# Altium footprint library others.PcbLib: 82 footprints (part 4 of 6)
Each footprint in its own frame and in the unit in brackets; x right, y up, seen from the top. Pads: shape width x height; smd on the part's side, far side on the other; paste and mask are expansions set on the pad; w line width, h text height; cw(c..) or ccw(c..) is an arc to the next point about the centre after c.
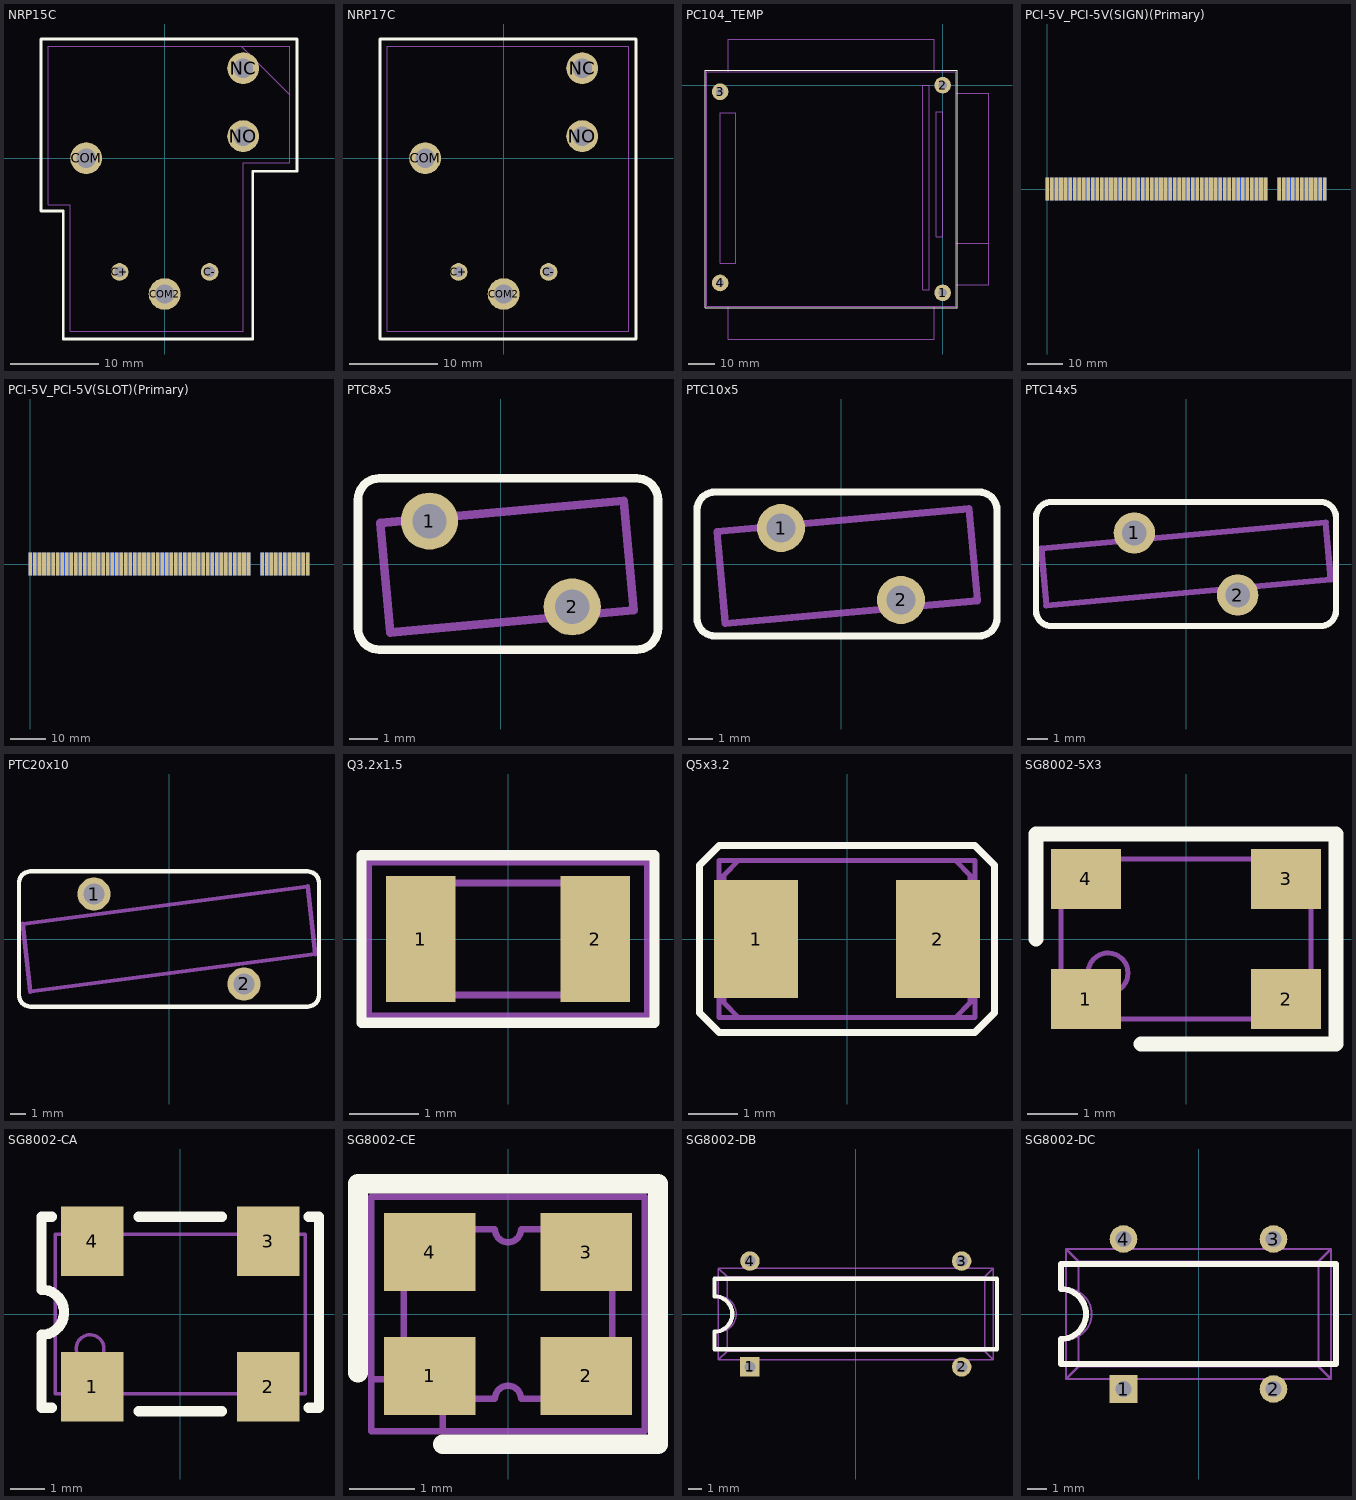
[diagram p3: the footprints below, top view; thin cyan lines are the x and y axes]

## NRP15C [mm]
height 20
pads (6):
  round 2 hole 1.2: C+(-5.1,-12.9) C-(5.1,-12.9)
  round 3.6 hole 2.2: COM(-8.9,0) COM2(0,-15.4) NC(8.9,10.2) NO(8.9,2.5)
Top Overlay:
  lines w0.3: -14,-6 -14,13.5 15,13.5 15,-1.5 10,-1.5 10,-20.5 -11.5,-20.5 -11.5,-6 -14,-6
Mechanical 1:
  lines w0.1: 8.7,12.7 14.2,7.2 ; -13.2,-5.3 -13.2,12.7 14.2,12.7 14.2,-0.5 8.9,-0.5 8.9,-19.6 -10.7,-19.6 -10.7,-5.3 -13.2,-5.3
3D body: height 20, standoff 0.2, extent -13.209,-19.609 14.208,12.708
3D body: height 1, standoff -3.6, extent -9.8,-0.3 -8,0.3
3D body: height 1, standoff -3.6, extent 8,2.2 9.8,2.8
3D body: height 1, standoff -3.6, extent 8,9.9 9.8,10.5
3D body: height 1, standoff -3.6, extent -0.9,-15.7 0.9,-15.1

## NRP17C [mm]
height 28
pads (6):
  round 2 hole 1.2: C+(-5.1,-12.9) C-(5.1,-12.9)
  round 3.6 hole 2.2: COM(-8.9,0) COM2(0,-15.4) NC(8.9,10.2) NO(8.9,2.5)
Top Overlay:
  lines w0.3: -14,-20.5 15,-20.5 15,13.5 -14,13.5 -14,-20.5
Mechanical 1:
  lines w0.1: -13.2,-19.6 -13.2,12.7 14.2,12.7 14.2,-19.6 -13.2,-19.6
3D body: height 28, standoff 19, extent -9.3,-3.2 -8.5,3.2
3D body: height 28, standoff 19, extent 5.7,2.1 12.1,2.9
3D body: height 28, standoff 19, extent 5.7,9.8 12.1,10.6
3D body: height 19.6, standoff 0.2, extent -13.208,-19.607 14.208,12.708
3D body: height 1, standoff -3.6, extent -0.9,-15.7 0.9,-15.1
3D body: height 1, standoff -3.6, extent 8,9.9 9.8,10.5
3D body: height 1, standoff -3.6, extent 8,2.2 9.8,2.8
3D body: height 1, standoff -3.6, extent -9.8,-0.3 -8,0.3

## PC104_TEMP [mm]
pads (4):
  round 6.4 hole 3.2: 1(0,-80.01) 2(0,0) 3(-85.725,-2.54) 4(-85.725,-76.2)
Top Overlay:
  lines w0.3: -91.44,-85.725 5.715,-85.725 5.715,5.715 -91.44,5.715 -91.44,-85.725
Mechanical 1:
  lines w0.3: -86.995,-77.47 -84.455,-74.93 ; -86.995,-74.93 -84.455,-77.47 ; -86.995,-3.81 -84.455,-1.27 ; -86.995,-1.27 -84.455,-3.81 ; -82.55,-85.09 -82.55,-97.79 -3.175,-97.79 -3.175,-85.09 ; -82.55,5.08 -82.55,17.78 -3.175,17.78 -3.175,5.08 ; -1.27,-81.28 1.27,-78.74 ; -1.27,-78.74 1.27,-81.28 ; -1.27,-1.27 1.27,1.27 ; -1.27,1.27 1.27,-1.27 ; 5.08,-76.835 17.78,-76.835 17.78,-60.96 ; 5.08,-60.96 17.78,-60.96 ; 5.08,-3.175 17.78,-3.175 17.78,-60.96 ; -90.805,-85.09 5.08,-85.09 5.08,5.08 -90.805,5.08 -90.805,-85.09 ; -85.725,-68.58 -79.725,-68.58 -79.725,-10.58 -85.725,-10.58 -85.725,-68.58 ; -7.62,-78.74 -5.08,-78.74 -5.08,0 -7.62,0 -7.62,-78.74 ; -2.54,-58.42 -2.54,-10.16 0,-10.16 0,-58.42 -2.54,-58.42
  text "A1" at -6.667,-82.091 h2.82
  text "D0" at 0,-61.771 h2.82
  text "B1" at -10.795,-82.091 h2.82
  text "A1" at -80.962,-72.566 h2.82
  text "D1" at -87.445,-72.566 h2.82
  text "C0" at -4.127,-61.771 h2.82

## PCI-5V_PCI-5V(SIGN)(Primary) [mil]
pads (120):
  rect 40x250 smd far side: A1(0,0) A2(50,0) A3(100,0) A4(150,0) A5(200,0) A6(250,0) A7(300,0) A8(350,0) A9(400,0) A10(450,0) A11(500,0) A12(550,0) A13(600,0) A14(650,0) A15(700,0) A16(750,0) A17(800,0) A18(850,0) A19(900,0) A20(950,0) A21(1000,0) A22(1050,0) A23(1100,0) A24(1150,0) A25(1200,0) A26(1250,0) A27(1300,0) A28(1350,0) A29(1400,0) A30(1450,0) A31(1500,0) A32(1550,0) A33(1600,0) A34(1650,0) A35(1700,0) A36(1750,0) A37(1800,0) A38(1850,0) A39(1900,0) A40(1950,0) A41(2000,0) A42(2050,0) A43(2100,0) A44(2150,0) A45(2200,0) A46(2250,0) A47(2300,0) A48(2350,0) A49(2400,0) A52(2550,0) A53(2600,0) A54(2650,0) A55(2700,0) A56(2750,0) A57(2800,0) A58(2850,0) A59(2900,0) A60(2950,0) A61(3000,0) A62(3050,0)
  rect 40x250 smd: B1(0,0) B2(50,0) B3(100,0) B4(150,0) B5(200,0) B6(250,0) B7(300,0) B8(350,0) B9(400,0) B10(450,0) B11(500,0) B12(550,0) B13(600,0) B14(650,0) B15(700,0) B16(750,0) B17(800,0) B18(850,0) B19(900,0) B20(950,0) B21(1000,0) B22(1050,0) B23(1100,0) B24(1150,0) B25(1200,0) B26(1250,0) B27(1300,0) B28(1350,0) B29(1400,0) B30(1450,0) B31(1500,0) B32(1550,0) B33(1600,0) B34(1650,0) B35(1700,0) B36(1750,0) B37(1800,0) B38(1850,0) B39(1900,0) B40(1950,0) B41(2000,0) B42(2050,0) B43(2100,0) B44(2150,0) B45(2200,0) B46(2250,0) B47(2300,0) B48(2350,0) B49(2400,0) B52(2550,0) B53(2600,0) B54(2650,0) B55(2700,0) B56(2750,0) B57(2800,0) B58(2850,0) B59(2900,0) B60(2950,0) B61(3000,0) B62(3050,0)

## PCI-5V_PCI-5V(SLOT)(Primary) [mil]
pads (120):
  rect 40x250 smd far side: A1(0,0) A2(50,0) A3(100,0) A4(150,0) A5(200,0) A6(250,0) A7(300,0) A8(350,0) A9(400,0) A10(450,0) A11(500,0) A12(550,0) A13(600,0) A14(650,0) A15(700,0) A16(750,0) A17(800,0) A18(850,0) A19(900,0) A20(950,0) A21(1000,0) A22(1050,0) A23(1100,0) A24(1150,0) A25(1200,0) A26(1250,0) A27(1300,0) A28(1350,0) A29(1400,0) A30(1450,0) A31(1500,0) A32(1550,0) A33(1600,0) A34(1650,0) A35(1700,0) A36(1750,0) A37(1800,0) A38(1850,0) A39(1900,0) A40(1950,0) A41(2000,0) A42(2050,0) A43(2100,0) A44(2150,0) A45(2200,0) A46(2250,0) A47(2300,0) A48(2350,0) A49(2400,0) A52(2550,0) A53(2600,0) A54(2650,0) A55(2700,0) A56(2750,0) A57(2800,0) A58(2850,0) A59(2900,0) A60(2950,0) A61(3000,0) A62(3050,0)
  rect 40x250 smd: B1(0,0) B2(50,0) B3(100,0) B4(150,0) B5(200,0) B6(250,0) B7(300,0) B8(350,0) B9(400,0) B10(450,0) B11(500,0) B12(550,0) B13(600,0) B14(650,0) B15(700,0) B16(750,0) B17(800,0) B18(850,0) B19(900,0) B20(950,0) B21(1000,0) B22(1050,0) B23(1100,0) B24(1150,0) B25(1200,0) B26(1250,0) B27(1300,0) B28(1350,0) B29(1400,0) B30(1450,0) B31(1500,0) B32(1550,0) B33(1600,0) B34(1650,0) B35(1700,0) B36(1750,0) B37(1800,0) B38(1850,0) B39(1900,0) B40(1950,0) B41(2000,0) B42(2050,0) B43(2100,0) B44(2150,0) B45(2200,0) B46(2250,0) B47(2300,0) B48(2350,0) B49(2400,0) B52(2550,0) B53(2600,0) B54(2650,0) B55(2700,0) B56(2750,0) B57(2800,0) B58(2850,0) B59(2900,0) B60(2950,0) B61(3000,0) B62(3050,0)

## PTC8x5 [mm]
height 12
pads (2):
  round 2 hole 1.2: 1(-2.5,1.5) 2(2.5,-1.5)
Top Overlay:
  lines w0.3: -5,-2.25 ccw(c-4.25,-2.25) -4.25,-3 4.75,-3 ccw(c4.75,-2.25) 5.5,-2.25 5.5,2.25 ccw(c4.75,2.25) 4.75,3 -4.25,3 ccw(c-4.25,2.25) -5,2.25 -5,-2.25
Mechanical 1:
  lines w0.3: -4.221,1.434 4.299,2.209 4.648,-1.623 -3.873,-2.398 -4.221,1.434
3D body: height 10, standoff 2, extent -3.938,-2.149 4.459,2.194

## PTC10x5 [mm]
height 14
pads (2):
  round 2 hole 1.2: 1(-2.5,1.5) 2(2.5,-1.5)
Top Overlay:
  lines w0.3: -6,-2.25 ccw(c-5.25,-2.25) -5.25,-3 5.75,-3 ccw(c5.75,-2.25) 6.5,-2.25 6.5,2.25 ccw(c5.75,2.25) 5.75,3 -5.25,3 ccw(c-5.25,2.25) -6,2.25 -6,-2.25
Mechanical 1:
  lines w0.3: -5.168,1.348 5.336,2.303 5.684,-1.529 -4.82,-2.484 -5.168,1.348
3D body: height 11.99, standoff 2, extent -4.923,-2.322 5.444,2.368

## PTC14x5 [mm]
height 20
pads (2):
  round 2 hole 1.2: 1(-2.5,1.5) 2(2.5,-1.5)
Top Overlay:
  lines w0.3: -7.25,-2.25 ccw(c-6.5,-2.25) -6.5,-3 6.5,-3 ccw(c6.5,-2.25) 7.25,-2.25 7.25,2.25 ccw(c6.5,2.25) 6.5,3 -6.5,3 ccw(c-6.5,2.25) -7.25,2.25 -7.25,-2.25
Mechanical 1:
  lines w0.3: -7,0.75 -6.75,-2 7,-0.75 6.75,2 -7,0.75
3D body: height 17.99, standoff 4, extent -7.142,-3.154 7.336,3.215

## PTC20x10 [mm]
height 25
pads (2):
  round 2.2 hole 1.4: 1(-5,3) 2(5,-3)
Top Overlay:
  lines w0.3: -10,-3.75 ccw(c-9.25,-3.75) -9.25,-4.5 9.25,-4.5 ccw(c9.25,-3.75) 10,-3.75 10,3.75 ccw(c9.25,3.75) 9.25,4.5 -9.25,4.5 ccw(c-9.25,3.75) -10,3.75 -10,-3.75
Mechanical 1:
  lines w0.3: -9.75,1 -9.25,-3.5 9.75,-1 9.25,3.5 -9.75,1
3D body: height 22.99, standoff 3, extent -10.345,-4.16 10.214,4.236

## Q3.2x1.5 [mm]
height 1
pads (2):
  rect 1x1.8 smd: 1(-1.25,0) 2(1.25,0)
Top Overlay:
  lines w0.15: -2.1,-1.2 2.1,-1.2 2.1,1.2 -2.1,1.2 -2.1,-1.2
Mechanical 1:
  lines w0.1: -1.6,-0.6 -1.6,0.6 -1.4,0.8 1.4,0.8 1.6,0.6 1.6,-0.6 1.4,-0.8 -1.4,-0.8 -1.6,-0.6
Mechanical 5:
  lines w0.1: -2,-1.1 2,-1.1 2,1.1 -2,1.1 -2,-1.1
  text ".Designator" at -1.1,-0.4 h0.8
Mechanical 6:
  lines w0.1: -2,-1.1 -2,1.1 2,1.1 2,-1.1 -2,-1.1
  text ".Comment" at -1.1,-0.4 h0.8
3D body: height 0.9, standoff 0, extent -1.6,-0.8 1.6,0.8

## Q5x3.2 [mm]
height 1.3
pads (2):
  rect 1.7x2.4 smd: 1(-1.85,0) 2(1.85,0)
Top Overlay:
  lines w0.15: -3,-1.5 -3,1.5 -2.6,1.9 2.6,1.9 3,1.5 3,-1.5 2.6,-1.9 -2.6,-1.9 -3,-1.5
Mechanical 1:
  lines w0.1: -2.5,-1.3 -2.5,-0.6 -2.4,-0.5 -2.4,0.5 -2.5,0.6 -2.5,1.3 -2.2,1.6 2.2,1.6 2.5,1.3 2.5,0.6 2.4,0.5 2.4,-0.5 2.5,-0.6 2.5,-1.3 2.2,-1.6 -2.2,-1.6 -2.5,-1.3
Mechanical 5:
  lines w0.1: -2.6,-1.6 2.6,-1.6 2.6,1.6 -2.6,1.6 -2.6,-1.6
  text ".Designator" at -1.1,-0.4 h0.8
Mechanical 6:
  lines w0.1: -2.6,-1.6 -2.6,1.6 2.6,1.6 2.6,-1.6 -2.6,-1.6
  text ".Comment" at -1.1,-0.4 h0.8
3D body: height 0.9, standoff 0, extent -2.6,-1.6 2.6,1.6

## SG8002-5X3 [mm]
pads (4):
  rect 1.4x1.2 smd: 1(-2,-1.2) 2(2,-1.2) 3(2,1.2) 4(-2,1.2)
Top Overlay:
  lines w0.3: -3,0 -3,2.1 3,2.1 3,-2.1 -0.9,-2.1
Mechanical 1:
  circle w0.1: c-1.56,-0.68 r0.4
  lines w0.1: -2.5,-1.2 cw(c-2.5,-1.6) -2.1,-1.6 2.1,-1.6 cw(c2.5,-1.6) 2.5,-1.2 2.5,1.2 cw(c2.5,1.6) 2.1,1.6 -2.1,1.6 cw(c-2.5,1.6) -2.5,1.2 -2.5,-1.2

## SG8002-CA [mm]
height 2
pads (4):
  rect 1.8x2 smd: 1(-2.54,-2.1) 2(2.54,-2.1) 3(2.54,2.1) 4(-2.54,2.1)
Top Overlay:
  lines w0.3: -3.7,-2.7 -4,-2.7 -4,-0.6 ccw(c-4,0.05) -4,0.7 -4,2.8 -3.7,2.8 ; -1.2,-2.8 1.2,-2.8 ; -1.2,2.8 1.2,2.8 ; 3.7,-2.7 4,-2.7 4,2.8 3.7,2.8
Mechanical 1:
  circle w0.1: c-2.6,-1 r0.4
  lines w0.1: -3.6,-2.3 -3.6,2.3 -2.8,2.3 ccw(c-2.5,2.3) -2.2,2.3 2.2,2.3 ccw(c2.5,2.3) 2.8,2.3 3.6,2.3 3.6,-2.3 2.8,-2.3 ccw(c2.5,-2.3) 2.2,-2.3 -2.2,-2.3 ccw(c-2.5,-2.3) -2.8,-2.3 -3.6,-2.3
3D body: height 2, standoff 0.4, extent -3.3,-2 3.3,2
3D body: height 1.7, standoff 0, extent -3.6,-2.3 3.6,2.3

## SG8002-CE [mm]
height 1.1
pads (4):
  rect 1.4x1.2 smd: 1(-1.2,-0.95) 2(1.2,-0.95) 3(1.2,0.95) 4(-1.2,0.95)
Top Overlay:
  lines w0.3: -2.3,-0.9 -2.3,2 2.3,2 2.3,-2 -1,-2
Mechanical 1:
  circle w0.1: c-1,-0.7 r0.2
  lines w0.1: -1.6,-1.1 cw(c-1.6,-1.3) -1.4,-1.3 -0.2,-1.3 cw(c0,-1.3) 0.2,-1.3 1.4,-1.3 cw(c1.6,-1.3) 1.6,-1.1 1.6,1.1 cw(c1.6,1.3) 1.4,1.3 0.2,1.3 cw(c0,1.3) -0.2,1.3 -1.4,1.3 cw(c-1.6,1.3) -1.6,1.1 -1.6,-1.1
Mechanical 5:
  lines w0.1: -2.1,-1 -1,-1 -1,-1.8 ; -2.1,-1.8 -2.1,1.8 2.1,1.8 2.1,-1.8 -2.1,-1.8
  text ".Designator" at -1.1,-0.4 h0.8
Mechanical 6:
  lines w0.1: -2.1,-1 -1,-1 -1,-1.8 ; -2.1,-1.8 2.1,-1.8 2.1,1.8 -2.1,1.8 -2.1,-1.8
  text ".Comment" at -1.1,-0.4 h0.8
3D body: height 1.1, standoff 0.4, extent -1.4,-1.1 1.4,1.1
3D body: height 0.9, standoff 0, extent -1.6,-1.3 1.6,1.3

## SG8002-DB [mm]
pads (4):
  rect 1.4x1.4 hole 0.8: 1(-7.62,-3.81)
  round 1.4 hole 0.8 unplated: 2(7.62,-3.81) 3(7.62,3.81) 4(-7.62,3.81)
Top Overlay:
  lines w0.3: -10.16,-2.54 10.16,-2.54 10.16,2.54 -10.16,2.54 -10.16,1.27 cw(c-10.16,0) -10.16,-1.27 -10.16,-2.54
Mechanical 1:
  lines w0.1: -9.906,-1.3 ccw(c-9.906,0) -9.906,1.3 ; -9.271,-1.143 -9.271,-2.667 ; -9.271,1.143 -9.271,2.667 ; -8.128,-3.302 -8.128,-3.81 -7.112,-3.81 -7.112,-3.302 ; -8.128,3.302 -8.128,3.81 -7.112,3.81 -7.112,3.302 ; 7.112,-3.302 7.112,-3.81 8.128,-3.81 8.128,-3.302 ; 7.112,3.302 7.112,3.81 8.128,3.81 8.128,3.302 ; -9.906,-3.302 9.906,-3.302 ; -9.906,-3.302 -9.906,3.302 ; -9.906,-3.302 -9.271,-2.667 ; -9.906,3.302 9.906,3.302 ; -9.906,3.302 -9.271,2.667 ; -9.271,-2.667 9.271,-2.667 ; -9.271,2.667 9.271,2.667 ; 9.271,-2.667 9.271,2.667 ; 9.271,-2.667 9.906,-3.302 ; 9.271,2.667 9.906,3.302 ; 9.906,-3.302 9.906,3.302

## SG8002-DC [mm]
pads (4):
  rect 1.4x1.4 hole 0.8: 1(-3.81,-3.81)
  round 1.4 hole 0.8 unplated: 2(3.81,-3.81) 3(3.81,3.81) 4(-3.81,3.81)
Top Overlay:
  lines w0.3: -6.985,-2.54 -6.985,-1.27 ccw(c-6.985,0) -6.985,1.27 -6.985,2.54 6.985,2.54 6.985,-2.54 -6.985,-2.54
Mechanical 1:
  lines w0.1: -6.731,-1.3 ccw(c-6.731,0) -6.731,1.3 ; -6.096,-1.143 -6.096,-2.667 ; -6.096,1.143 -6.096,2.667 ; -4.318,-3.302 -4.318,-3.81 -3.302,-3.81 -3.302,-3.302 ; -4.318,3.302 -4.318,3.81 -3.302,3.81 -3.302,3.302 ; 3.302,-3.302 3.302,-3.81 4.318,-3.81 4.318,-3.302 ; 3.302,3.302 3.302,3.81 4.318,3.81 4.318,3.302 ; -6.731,-3.302 -6.096,-2.667 ; -6.731,-3.302 -6.731,3.302 ; -6.731,-3.302 6.731,-3.302 ; -6.731,3.302 -6.096,2.667 ; -6.731,3.302 6.731,3.302 ; -6.096,-2.667 6.096,-2.667 ; -6.096,2.667 6.096,2.667 ; 6.096,-2.667 6.731,-3.302 ; 6.096,-2.667 6.096,2.667 ; 6.096,2.667 6.731,3.302 ; 6.731,-3.302 6.731,3.302